# Altium schematic symbol library HEADER-4x2.SchLib: 2 symbols
Pins are listed as number, name and electrical type; pins without a type are passive.

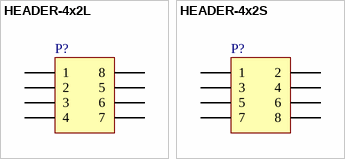
[diagram p0: symbols HEADER-4x2L to HEADER-4x2S]

## HEADER-4x2L
designator P?
pins: 1, 2 5, 3 2, 4 6, 5 3, 6 7, 7 4, 8

## HEADER-4x2S
designator P?
pins: 1, 2, 3, 4, 5, 6, 7, 8